# Altium schematic symbol library MAX17320.SchLib: 1 symbol
Pins are listed as number, name and electrical type; pins without a type are passive.

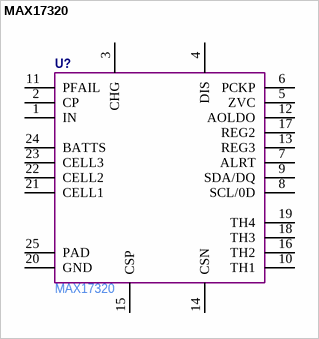
[diagram p0: symbol MAX17320]

## MAX17320
designator U?  Manufacturer Part Number: MAX17320  (hidden comment: *)
pins: 1 IN, 2 CP, 3 CHG, 4 DIS, 5 ZVC, 6 PCKP, 7 ALRT, 8 SCL/0D, 9 SDA/DQ, 10 TH1, 11 PFAIL, 12 AOLDO, 13 REG3, 14 CSN, 15 CSP, 16 TH2, 17 REG2, 18 TH3, 19 TH4, 20 GND, 21 CELL1, 22 CELL2, 23 CELL3, 24 BATTS, 25 PAD